# Altium schematic symbol library Desafio_Hardware_Firmware_Nathania.SchLib: 26 symbols
Pins are listed as number, name and electrical type; pins without a type are passive.

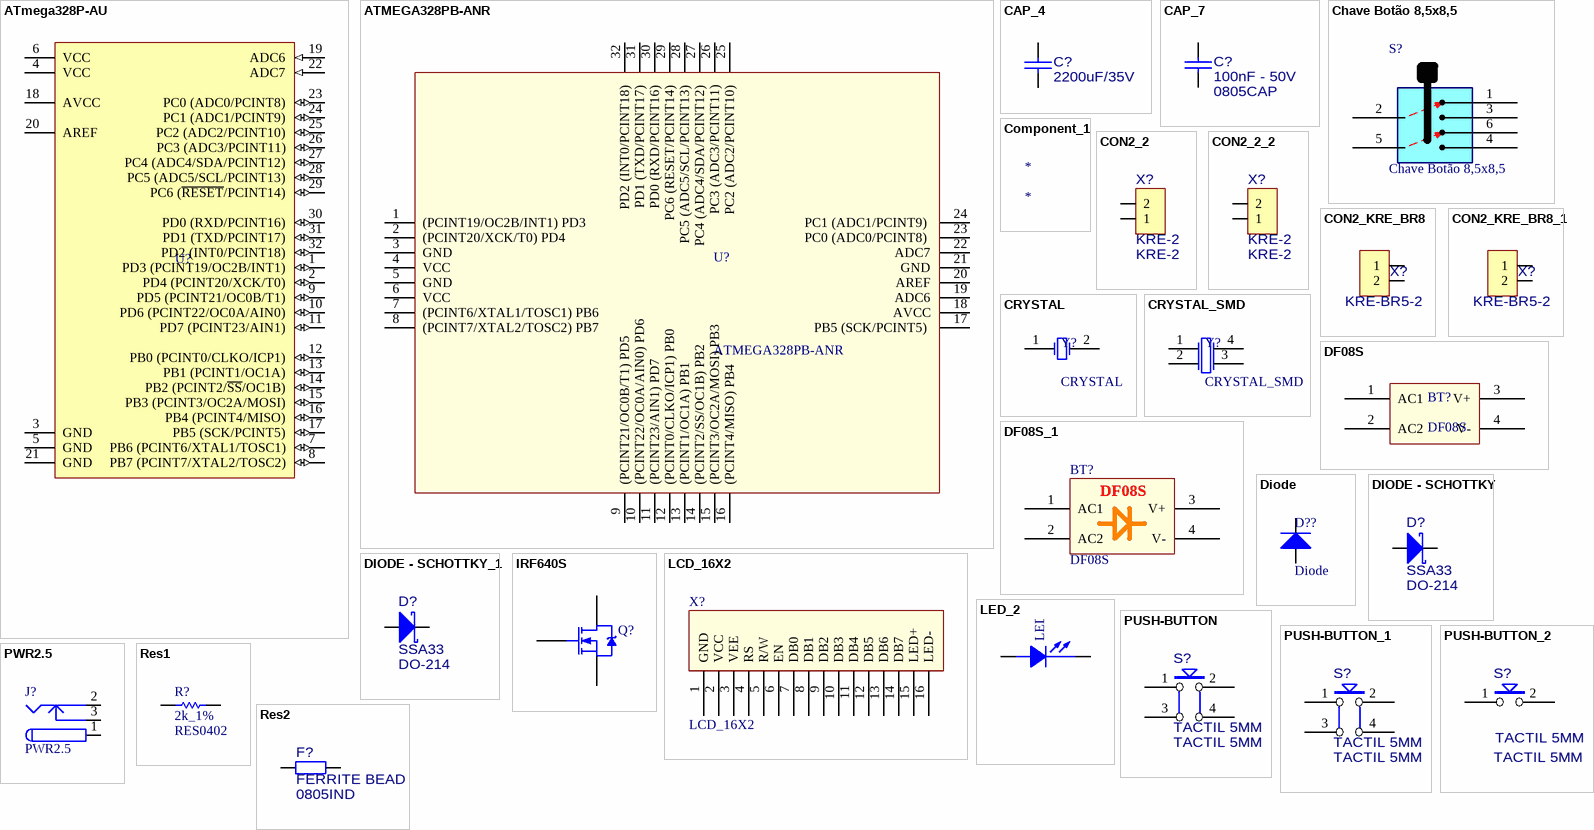
[diagram p0: symbols ATmega328P-AU to Res2]

## ATmega328P-AU
designator U?
8-bit AVR Microcontroller, 32KB Flash, 1KB EEPROM, 2KB SRAM, 32-pin TQFP, Industrial Grade (-40°C to 85°C); Published: 1-Apr-2010; DatasheetVersion: revA, Jan-2010; PackageVersion: revB, Oct-2001; PackageReference: 32A; Publisher: Altium Limited; PackageDescription: 32-Lead, 7x7x1.0 mm Body, 0.8mm Lead Pitch, Thin Profile Plastic Quad Flat Package (TQFP); Supplier 1: Digi-Key; Supplier Part Number 1: ATMEGA328P-AU-ND; Supplier 2: Farnell; Supplier Part Number 2: 1715486; Supplier 3: Mouser; Supplier Part Number 3: 556-ATMEGA328P-AU; Code_JEDEC: MS-026-ABA; ComponentLink1Description: Manufacturer Link; ComponentLink1URL: http://www.atmel.com/products/avr/default.asp?; ComponentLink2Description: ATmega48A/48PA/88A/88PA/168A/168PA/328/328P Datasheet; ComponentLink2URL: http://www.atmel.com/dyn/resources/prod_documents/8271.pdf; ComponentLink3Description: ATmega48A/48PA/88A/88PA/168A/168PA/328/328P Summary; ComponentLink3URL: http://www.atmel.com/dyn/resources/prod_documents/8271S.pdf; ComponentLink4Description: Atmel.com Home; ComponentLink4URL: http://www.atmel.com
footprint 32A_N (Thin QFP, 32-Leads, Body 7x7mm, Pitch 0.8mm, IPC Medium Density)
footprint 32A_L (Thin QFP, 32-Leads, Body 7x7mm, Pitch 0.8mm, IPC High Density)
footprint 32A_M (Thin QFP, 32-Leads, Body 7x7mm, Pitch 0.8mm, IPC Low Density)
pins: 1 PD3 (PCINT19/OC2B/INT1) (io), 2 PD4 (PCINT20/XCK/T0) (io), 3 GND (power), 4 VCC (power), 5 GND (power), 6 VCC (power), 7 PB6 (PCINT6/XTAL1/TOSC1) (io), 8 PB7 (PCINT7/XTAL2/TOSC2) (io), 9 PD5 (PCINT21/OC0B/T1) (io), 10 PD6 (PCINT22/OC0A/AIN0) (io), 11 PD7 (PCINT23/AIN1) (io), 12 PB0 (PCINT0/CLKO/ICP1) (io), 13 PB1 (PCINT1/OC1A) (io), 14 PB2 (PCINT2/~{SS}/OC1B) (io), 15 PB3 (PCINT3/OC2A/MOSI) (io), 16 PB4 (PCINT4/MISO) (io), 17 PB5 (SCK/PCINT5) (io), 18 AVCC (power), 19 ADC6 (in), 20 AREF, 21 GND (power), 22 ADC7 (in), 23 PC0 (ADC0/PCINT8) (io), 24 PC1 (ADC1/PCINT9) (io), 25 PC2 (ADC2/PCINT10) (io), 26 PC3 (ADC3/PCINT11) (io), 27 PC4 (ADC4/SDA/PCINT12) (io), 28 PC5 (ADC5/SCL/PCINT13) (io), 29 PC6 (~{RESET}/PCINT14) (io), 30 PD0 (RXD/PCINT16) (io), 31 PD1 (TXD/PCINT17) (io), 32 PD2 (INT0/PCINT18) (io)

## ATMEGA328PB-ANR
designator U?
MCU 8-bit ATmega AVR RISC 32KB Flash 2.5V/3.3V/5V 32-Pin TQFP T/R; Manufacturer_Name: Microchip; Geometry.Height: 1.2mm; Mouser Part Number: 556-ATMEGA328PB-ANR; Mouser Price/Stock: https://www.mouser.co.uk/ProductDetail/Microchip-Technology/ATMEGA328PB-ANR?qs=jy4bLUHv09gAXMeIQH7RPw%3D%3D; Manufacturer_Part_Number: ATMEGA328PB-ANR; Datasheet Link: http://ww1.microchip.com/downloads/en/DeviceDoc/40001906A.pdf
footprint QFP80P900X900X120-32N
pins: 1 (PCINT19/OC2B/INT1) PD3, 2 (PCINT20/XCK/T0) PD4, 3 GND, 4 VCC, 5 GND, 6 VCC, 7 (PCINT6/XTAL1/TOSC1) PB6, 8 (PCINT7/XTAL2/TOSC2) PB7, 9 (PCINT21/OC0B/T1) PD5 , 10 (PCINT22/OC0A/AIN0) PD6 , 11 (PCINT23/AIN1) PD7 , 12 (PCINT0/CLKO/ICP1) PB0 , 13 (PCINT1/OC1A) PB1 , 14 (PCINT2/SS/OC1B) PB2 , 15 (PCINT3/OC2A/MOSI) PB3 , 16 (PCINT4/MISO) PB4 , 17 PB5 (SCK/PCINT5) , 18 AVCC, 19 ADC6, 20 AREF, 21 GND, 22 ADC7, 23 PC0 (ADC0/PCINT8) , 24 PC1 (ADC1/PCINT9) , 25 PC2 (ADC2/PCINT10) , 26 PC3 (ADC3/PCINT11) , 27 PC4 (ADC4/SDA/PCINT12) , 28 PC5 (ADC5/SCL/PCINT13) , 29 PC6 (RESET/PCINT14) , 30 PD0 (RXD/PCINT16) , 31 PD1 (TXD/PCINT17) , 32 PD2 (INT0/PCINT18) 

## CAP_4
designator C?, comment 2200uF/35V
Footprint: 0805CAP; Digikey: 1276-1007-1-ND; Value: 2200uF/35V
footprint CAP_ELETR_16x25 - 90
pins: 1, 2

## CAP_7
designator C?, comment Footprint: 0805CAP  (hidden comment: 100nF - 50V)
Digikey: 1276-1007-1-ND; Value: 100nF - 50V
footprint CAP0805 (Chip Resistor; Body 2 x 1.2 mm (LxW typ))
pins: 1, 2

## Chave Botão 8,5x8,5
designator S?
footprint Chave Botão 8,5x8,5
pins: 1, 2, 3, 4, 5, 6

## Component_1
designator *

## CON2_2
designator X?, comment KRE-2
ClassName: Fonte2; ClassName: RELAY; Value: KRE-2; Footprint: KRE-2
footprint KRE-2 (BORNE CONECTOR, MKDSN2.5, 2 PIN, PHOENIX CONTACT)
3D model KRE-2 (PCB3D Model)
pins: 1, 2

## CON2_2_2
designator X?, comment KRE-2
ClassName: Fonte2; ClassName: RELAY; Value: KRE-2; Footprint: KRE-2
footprint KRE-2
3D model KRE-2 (PCB3D Model)
pins: 1, 2

## CON2_KRE_BR8
designator X?, comment KRE-BR5-2
ClassName: Fonte2; ClassName: RELAY; Value: KRE-BR5-2
footprint BR8-2
3D model KRE-2 (PCB3D Model)
pins: 1, 2

## CON2_KRE_BR8_1
designator X?, comment KRE-BR5-2
ClassName: Fonte2; ClassName: RELAY; Value: KRE-BR5-2
footprint BR8-2
3D model KRE-2 (PCB3D Model)
pins: 1, 2

## CRYSTAL
designator Y?
Crystal Oscillator
footprint HC49S-SMD
pins: 1 OSC1, 2 OSC2

## CRYSTAL_SMD
designator Y?
Crystal Oscillator
footprint DFN-4
pins: 1 OSC1, 2 OSC1, 3 OSC2, 4 OSC2

## DF08S
designator BT?
footprint DF-S
pins: 1 AC1, 2 AC2, 3 V+, 4 V-

## DF08S_1
designator BT?, comment DF08S
footprint DF08S
pins: 1 AC1, 2 AC2, 3 V+, 4 V-

## Diode
designator D??
Default Diode
pins: 1 A, 2 K

## DIODE - SCHOTTKY
designator D?, comment SSA33
Schottky Diode; Value: SSA33
footprint DO-214
3D model DO-214 (PCB3D Model)
pins: A, K
1 alternate drawing of the same symbol

## DIODE - SCHOTTKY_1
designator D?, comment SSA33
Schottky Diode; Value: SSA33
footprint DO-214
3D model DO-214 (PCB3D Model)
pins: A, K
1 alternate drawing of the same symbol

## IRF640S
designator Q?
HEXFET N-Channel Power MOSFET; Published: 8-Jun-2000; LatestRevisionDate: 20-Nov-2009; LatestRevisionNote: IPC-7351 Footprint Added.; DatasheetVersion: Jul-1999; PackageReference: D2PAK; Publisher: Altium Limited; PackageDescription: 3-Pin Transistor Outline Package 2.54 mm Pitch, 15.1 mm Lead Span; ComponentLink1Description: Manufacturer Link; ComponentLink1URL: http://www.irf.com/; ComponentLink2Description: Datasheet; ComponentLink2URL: http://www.irf.com/product-info/datasheets/data/irf640s.pdf
footprint D2PAK_N (D2-PAK, 4-Leads, Body 8.8x10.4mm, Pitch 2.54mm, Lead Span 15.1mm, IPC Medium Density)
footprint D2PAK_L (D2-PAK, 4-Leads, Body 8.8x10.4mm, Pitch 2.54mm, Lead Span 15.1mm, IPC High Density)
footprint D2PAK_M (D2-PAK, 4-Leads, Body 8.8x10.4mm, Pitch 2.54mm, Lead Span 15.1mm, IPC Low Density)
simulation model IRF640S (SUBCKT)
pins: 1 G, 2 D, 3 S

## LCD_16X2
designator X?
footprint LCD8X2
pins: 1 GND, 2 VCC, 3 VEE, 4 RS, 5 R/W, 6 EN, 7 DB0, 8 DB1, 9 DB2, 10 DB3, 11 DB4, 12 DB5, 13 DB6, 14 DB7, 15 LED+, 16 LED-

## LED_2
designator D?, comment LED BLUE 0805
LED 0805; FID1: C309; MTG4: C318; C258: C263; C409: C301; C321: C195; C316: C198
footprint 0805LED; pin to pad 1>A 2>K
pins: 1 ANODE, 2 CATHODE

## PUSH-BUTTON
designator S?, comment TACTIL 5MM
ClassName: PUSH_BUTTON; Value: TACTIL 5MM; Footprint: TACTIL 5MM
footprint TACTIL 5MM
3D model TACTIL 5MM (PCB3D Model)
pins: 1, 2, 3, 4

## PUSH-BUTTON_1
designator S?, comment TACTIL 5MM
ClassName: KEYBOARD; Value: TACTIL 5MM; Footprint: TACTIL 5MM
footprint TACTIL 5MM
pins: 1, 2, 3, 4

## PUSH-BUTTON_2
designator S?, comment TACTIL 5MM
ClassName: PUSH_BUTTON; Value: TACTIL 5MM; Footprint: TACTIL 5MM
footprint TACTIL 5MM
3D model TACTIL 5MM (PCB3D Model)
pins: 1, 2

## PWR2.5
designator J?
Low Voltage Power Supply Connector; Digikey: CP-002BHPJCT-ND
footprint pj-002bh
signal-integrity model Connector
pins: 1 (power), 2 (power), 3 (power)

## Res1
designator R?, comment 2k_1%
Resistor; Value: 2k_1%
footprint RES0402 (Chip Resistor; Body 1 x 0.5 mm (LxW typ))
simulation model RESISTOR (Resistor)
signal-integrity model Res
pins: 1, 2

## Res2
designator F?, comment FERRITE BEAD
Resistor; Value: FERRITE BEAD
3D model 0805IND (PCB3D Model)
footprint 0805IND
pins: 1, 2